# Altium footprint library MyLibOLD.pcblib: 112 footprints (part 6 of 7)
Each footprint in its own frame and in the unit in brackets; x right, y up, seen from the top. Pads: shape width x height; smd on the part's side, far side on the other; paste and mask are expansions set on the pad; w line width, h text height; cw(c..) or ccw(c..) is an arc to the next point about the centre after c.
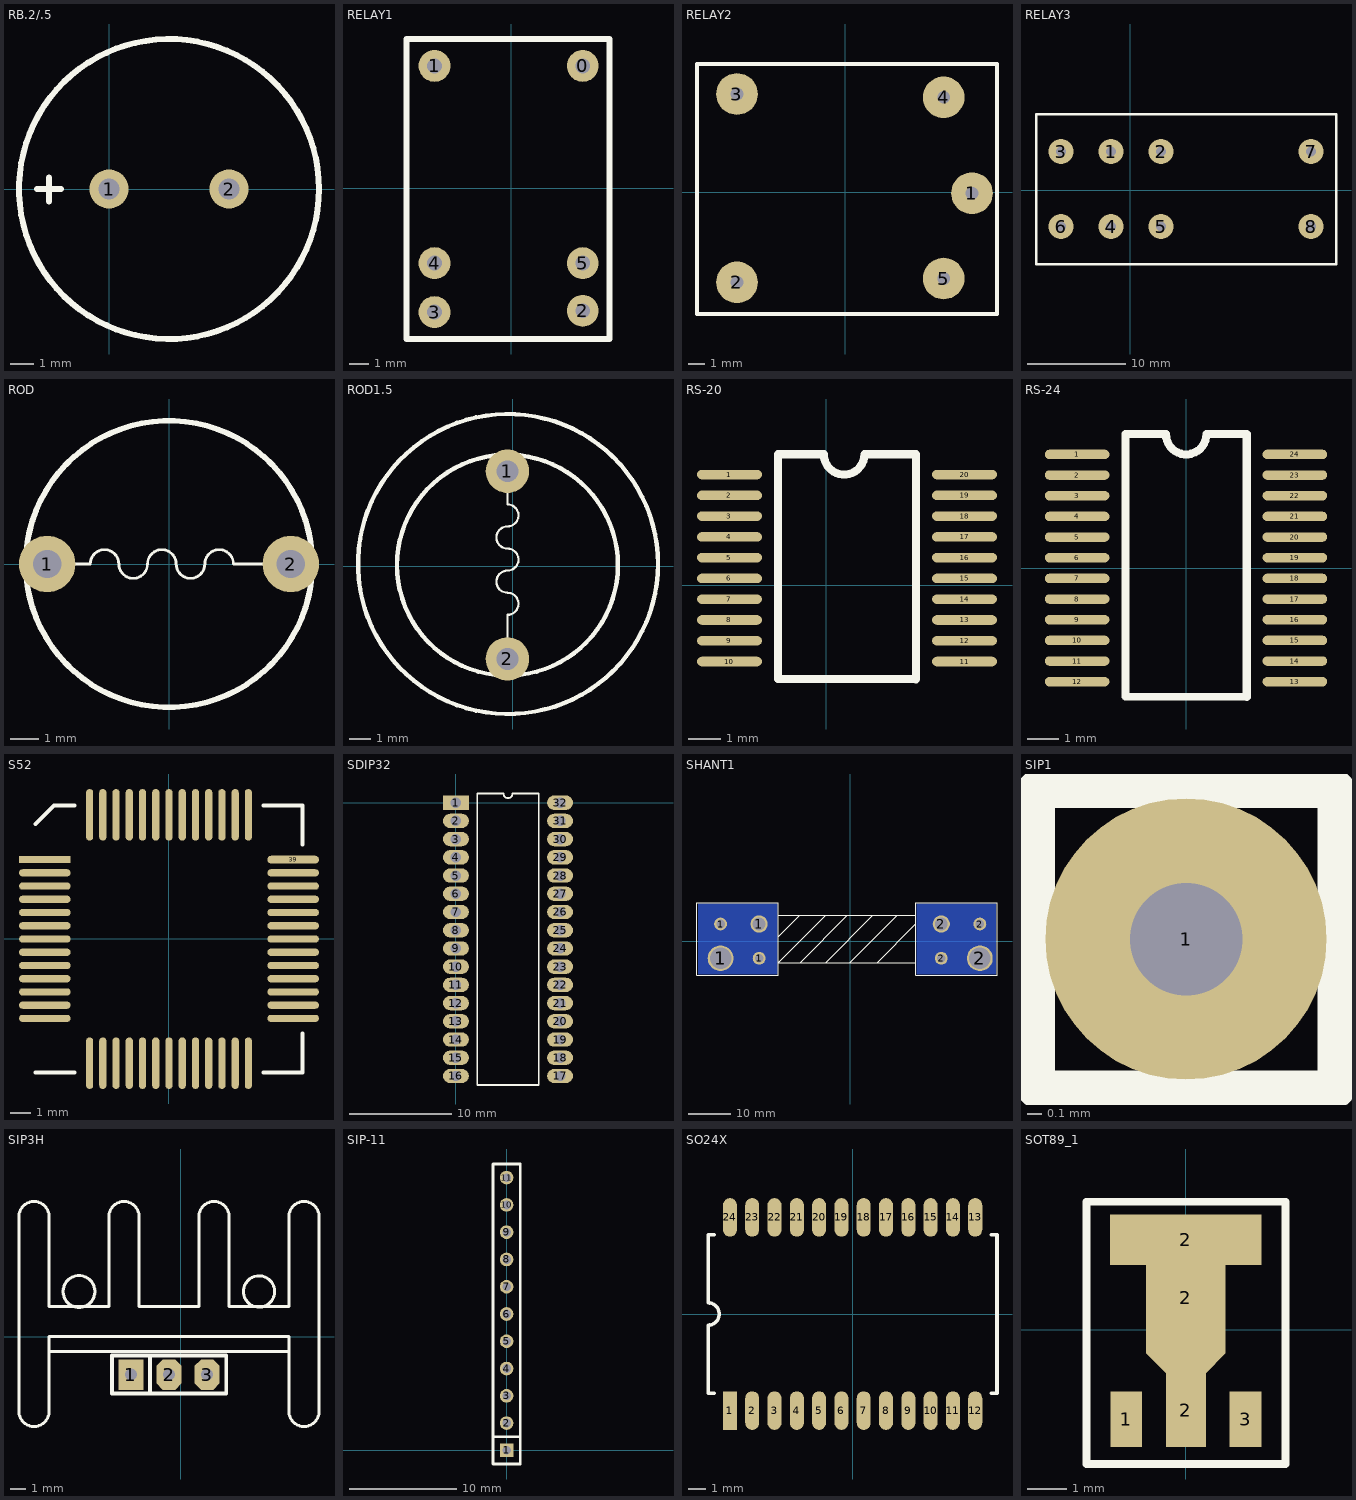
[diagram p5: the footprints below, top view; thin cyan lines are the x and y axes]

## RB.2/.5 [mil]
pads (2):
  round 65 hole 35: 1(0,0) 2(200,0)
TopOverlay:
  circle w10: c100,0 r250
  lines w10: -120,0 -80,0 ; -100,-21 -100,19

## RELAY1 [mil]
pads (6):
  round 65 hole 30: 0(146,250) 1(-156.5,250) 2(146,-250) 3(-156.5,-252.5) 4(-156.5,-152.5) 5(146,-152.5)
TopOverlay:
  lines w12: -214,-307.5 -214,305 201,305 201,-307.5 193.5,-307.5 -214,-307.5

## RELAY2 [mm]
pads (5):
  round 2.5 hole 0.762: 1(7.6,-0.058) 2(-6.5,-5.404) 3(-6.5,5.896) 4(5.9,5.696) 5(5.9,-5.177)
TopOverlay:
  lines w0.254: -8.9,-7.304 -8.9,7.696 9.1,7.696 9.1,-7.304 -8.9,-7.304

## RELAY3 [mil]
pads (8):
  round 100 hole 40: 1(-76.54,155.03) 2(123.46,155.03) 3(-276.54,155.03) 4(-76.54,-144.97) 5(123.46,-144.97) 6(-276.54,-144.97) 7(723.46,155.03) 8(723.46,-144.97)
TopOverlay:
  lines w10: -376.54,-294.97 -376.54,305.03 823.46,305.03 823.46,-294.97 -376.54,-294.97

## ROD [mm]
pads (2):
  round 2 hole 1: 1(-4.318,0) 2(4.318,0)
TopOverlay:
  circle w0.203: c0,0 r5.08
  lines w0.102: -4.064,0 -2.794,0 cw(c-2.286,0) -1.778,0 ccw(c-1.27,0) -0.762,0 cw(c-0.254,0) 0.254,0 ccw(c0.762,0) 1.27,0 cw(c1.778,0) 2.286,0 2.54,0 2.794,0 3.81,0

## ROD1.5 [mm]
pads (2):
  round 2 hole 1: 1(-0.254,4.369) 2(-0.254,-4.267)
TopOverlay:
  circle w0.203: c-0.229,0.102 r6.9
  circle w0.203: c-0.254,0.051 r5.08
  lines w0.102: -0.254,-3.759 -0.254,-2.743 -0.254,-2.489 -0.254,-2.235 ccw(c-0.254,-1.727) -0.254,-1.219 cw(c-0.254,-0.711) -0.254,-0.203 ccw(c-0.254,0.305) -0.254,0.813 cw(c-0.254,1.321) -0.254,1.829 ccw(c-0.254,2.337) -0.254,2.845 -0.254,4.115

## RS-20 [mm]
pads (20):
  oval 2.032x0.3 smd: 1(-3.028,3.46) 2(-3.028,2.81) 3(-3.028,2.16) 4(-3.028,1.51) 5(-3.028,0.86) 6(-3.028,0.21) 7(-3.028,-0.44) 8(-3.028,-1.09) 9(-3.028,-1.74) 10(-3.028,-2.39) 11(4.328,-2.39) 12(4.328,-1.74) 13(4.328,-1.09) 14(4.328,-0.44) 15(4.328,0.21) 16(4.328,0.86) 17(4.328,1.51) 18(4.328,2.16) 19(4.328,2.81) 20(4.328,3.46)
TopOverlay:
  lines w0.254: 1.196,4.095 cw(c0.561,4.095) -0.074,4.095 -1.504,4.095 -1.504,-2.936 2.814,-2.946 2.814,4.095 1.214,4.095

## RS-24 [mm]
pads (24):
  oval 2.032x0.3 smd: 1(-3.424,3.575) 2(-3.424,2.925) 3(-3.424,2.275) 4(-3.424,1.625) 5(-3.424,0.975) 6(-3.424,0.325) 7(-3.424,-0.325) 8(-3.424,-0.975) 9(-3.424,-1.625) 10(-3.424,-2.275) 11(-3.424,-2.925) 12(-3.424,-3.575) 13(3.424,-3.575) 14(3.424,-2.925) 15(3.424,-2.275) 16(3.424,-1.625) 17(3.424,-0.975) 18(3.424,-0.325) 19(3.424,0.325) 20(3.424,0.975) 21(3.424,1.625) 22(3.424,2.275) 23(3.424,2.925) 24(3.424,3.575)
TopOverlay:
  lines w0.254: -1.9,-4.04 -1.9,4.21 -0.63,4.21 ccw(c0.005,4.21) 0.64,4.21 1.91,4.21 1.91,-4.05 -1.9,-4.04

## S52 [mm]
pads (52):
  rect 2.54x0.356 smd: 1(-6.1,3.9)
  oval 2.54x0.356 smd: 2(-6.1,3.25) 3(-6.1,2.6) 4(-6.1,1.95) 5(-6.1,1.3) 6(-6.1,0.65) 7(-6.1,0) 8(-6.1,-0.65) 9(-6.1,-1.3) 10(-6.1,-1.95) 11(-6.1,-2.6) 12(-6.1,-3.25) 13(-6.1,-3.9) 27(6.1,-3.9) 28(6.1,-3.25) 29(6.1,-2.6) 30(6.1,-1.95) 31(6.1,-1.3) 32(6.1,-0.65) 33(6.1,0) 34(6.1,0.65) 35(6.1,1.3) 36(6.1,1.95) 37(6.1,2.6) 38(6.1,3.25)
  oval 0.356x2.54 smd: 14(-3.9,-6.1) 15(-3.25,-6.1) 16(-2.6,-6.1) 17(-1.95,-6.1) 18(-1.3,-6.1) 19(-0.65,-6.1) 20(0,-6.1) 21(0.65,-6.1) 22(1.3,-6.1) 23(1.95,-6.1) 24(2.6,-6.1) 25(3.25,-6.1) 26(3.9,-6.1) 40(3.9,6.1) 41(3.25,6.1) 42(2.6,6.1) 43(1.95,6.1) 44(1.3,6.1) 45(0.65,6.1) 46(0,6.1) 47(-0.65,6.1) 48(-1.3,6.1) 49(-1.95,6.1) 50(-2.6,6.1) 51(-3.25,6.1) 52(-3.9,6.1)
  oval 2.54x0.381 smd: 39(6.1,3.9)
TopOverlay:
  lines w0.2: -6.55,-6.55 -4.65,-6.55 ; -6.55,5.65 -5.65,6.55 -4.65,6.55 ; 4.65,-6.55 6.55,-6.55 6.55,-4.65 ; 4.65,6.55 6.55,6.55 6.55,4.65

## SDIP32 [mil]
pads (32):
  rect 100x55 hole 40: 1(0,0)
  oval 100x55 hole 40: 2(0,-70) 3(0,-140) 4(0,-210) 5(0,-280) 6(0,-350) 7(0,-420) 8(0,-490) 9(0,-560) 10(0,-630) 11(0,-700) 12(0,-770) 13(0,-840) 14(0,-910) 15(0,-980) 16(0,-1050) 17(400,-1050) 18(400,-980) 19(400,-910) 20(400,-840) 21(400,-770) 22(400,-700) 23(400,-630) 24(400,-560) 25(400,-490) 26(400,-420) 27(400,-350) 28(400,-280) 29(400,-210) 30(400,-140) 31(400,-70) 32(400,0)
TopOverlay:
  lines w7: 82,-1085 82,35 182.5,35 ccw(c200,35) 217.5,35 318,35 318,-1085 82,-1085

## SHANT1 [mm]
pads (8):
  round 6 hole 5: 1(-30.25,-4) 2(30.25,-4)
  round 3 hole 2: 1(-30.25,4) 1(-21.25,-4) 2(21.25,-4) 2(30.25,4)
  round 4 hole 3: 1(-21.25,4) 2(21.25,4)
BottomLayer:
  rectangle: -35.55,-7.8 -16.95,8.8
  rectangle: 15.45,-7.8 34.05,8.8
TopOverlay:
  lines w0.254: -31.35,-4 -29.05,-4 ; -31.25,4 -29.25,4 ; -30.25,-4.9 -30.25,-3.1 ; -30.25,2.7 -30.25,5 ; -22.45,-4 -19.95,-4 ; -22.45,4 -19.95,4 ; -21.25,-5.1 -21.25,-2.9 ; -21.25,2.9 -21.25,5.1 ; -16.75,1 -11.75,6 ; -16.75,6 15.25,6 ; -12.55,6 -12.45,6 ; -11.65,-5 -0.65,6 ; -5.75,-5 5.25,6 ; -5.75,6 -16.75,-5 15.25,-5 ; -0.05,-5 10.95,6 ; 6.25,-5 15.15,3.9 15.25,3.9 ; 20.25,-4 22.35,-4 ; 20.25,4 22.15,4 ; 21.25,-5.1 21.25,-3 ; 21.25,3 21.25,4.8 ; 29.25,-4 31.35,-4 ; 29.75,4 30.85,4 ; 30.25,-5.4 30.25,-3.1 ; 30.25,3.3 30.25,4.7 ; 5.25,6 5.25,6 ; -35.75,-8 -35.75,9 -16.75,9 -16.75,-8 -35.75,-8 ; 15.25,-8 15.25,9 34.25,9 34.25,-8 15.25,-8

## SIP1 [mil]
pads (1):
  round 75 hole 30: 1(0,0)
TopOverlay:
  lines w10: -40,-40 -40,40 40,40 40,-40 -40,-40

## SIP3H [mil]
pads (3):
  rect 65x80 hole 32: 1(-131,-99)
  oct 65x80 hole 32: 2(-31,-99) 3(69,-99)
TopOverlay:
  circle w8: c-267.26,118.98 r41.85
  circle w8: c205.18,118.98 r41.1
  lines w8: -342.06,-38.5 283.92,-38.5 ; 362.66,-192.05 362.66,300.08 362.66,315.83 ccw(c323.29,315.83) 323.29,355.2 ccw(c323.29,315.83) 283.92,315.83 283.92,83.54 283.92,79.61 126.44,79.61 126.44,315.83 ccw(c87.07,315.83) 87.07,355.2 ccw(c87.07,315.83) 47.7,315.83 47.7,79.61 -109.78,79.61 -109.78,315.83 ccw(c-149.15,315.83) -149.15,355.2 ccw(c-149.15,315.83) -188.52,315.83 -188.52,79.61 -346,79.61 -346,315.83 ccw(c-385.37,315.83) -385.37,355.2 ccw(c-385.37,315.83) -424.74,315.83 -424.74,304.02 -424.74,-195.98 ccw(c-385.37,-195.98) -385.37,-235.35 ccw(c-385.37,-195.98) -346,-195.98 -346,-188.11 -346,0.87 283.92,0.87 283.92,-195.98 ccw(c323.29,-195.98) 323.29,-235.35 ccw(c323.29,-195.98) 362.66,-195.98 362.66,-188.11
  lines w10: -81,-149 -81,-49 ; -181,-149 -181,-49 119,-49 119,-149 -181,-149

## SIP-11 [mil]
pads (11):
  rect 50x50 hole 32: 1(0,0)
  round 50 hole 32: 2(0,100) 3(0,200) 4(0,300) 5(0,400) 6(0,500) 7(0,600) 8(0,700) 9(0,800) 10(0,900) 11(0,1000)
TopOverlay:
  lines w10: -50,50 50,50 ; -50,-50 50,-50 50,1050 -50,1050 -50,-50

## SO24X [mm]
pads (24):
  rect 0.8x2.2 smd: 1(-6.985,-5.5)
  oval 0.8x2.2 smd: 2(-5.715,-5.5) 3(-4.445,-5.5) 4(-3.175,-5.5) 5(-1.905,-5.5) 6(-0.635,-5.5) 7(0.635,-5.5) 8(1.905,-5.5) 9(3.175,-5.5) 10(4.445,-5.5) 11(5.715,-5.5) 12(6.985,-5.5) 13(6.985,5.5) 14(5.715,5.5) 15(4.445,5.5) 16(3.175,5.5) 17(1.905,5.5) 18(0.635,5.5) 19(-0.635,5.5) 20(-1.905,5.5) 21(-3.175,5.5) 22(-4.445,5.5) 23(-5.715,5.5) 24(-6.985,5.5)
TopOverlay:
  lines w0.2: -7.885,-4.51 -8.225,-4.51 -8.225,-0.635 ccw(c-8.225,0) -8.225,0.635 -8.225,4.51 -7.885,4.51 ; 7.885,-4.51 8.225,-4.51 8.225,4.51 7.885,4.51

## SOT89_1 [mm]
pads (5):
  rect 0.8x1.4 smd: 1(-1.5,-2.261) 3(1.5,-2.261)
  rect 3.81x1.27 smd: 2(-0.001,2.261)
  rect 1x1.854 smd: 2(0,-2.034)
  oct 2x3.8 smd: 2(0,0.793)
TopOverlay:
  lines w0.2: -2.499,-3.384 -2.499,3.216 2.501,3.216 2.501,-3.384 -2.499,-3.384